# Altium footprint library Connector_USB.PcbLib: 76 footprints (part 4 of 5)
Each footprint in its own frame and in the unit in brackets; x right, y up, seen from the top. Pads: shape width x height; smd on the part's side, far side on the other; paste and mask are expansions set on the pad; w line width, h text height; cw(c..) or ccw(c..) is an arc to the next point about the centre after c.
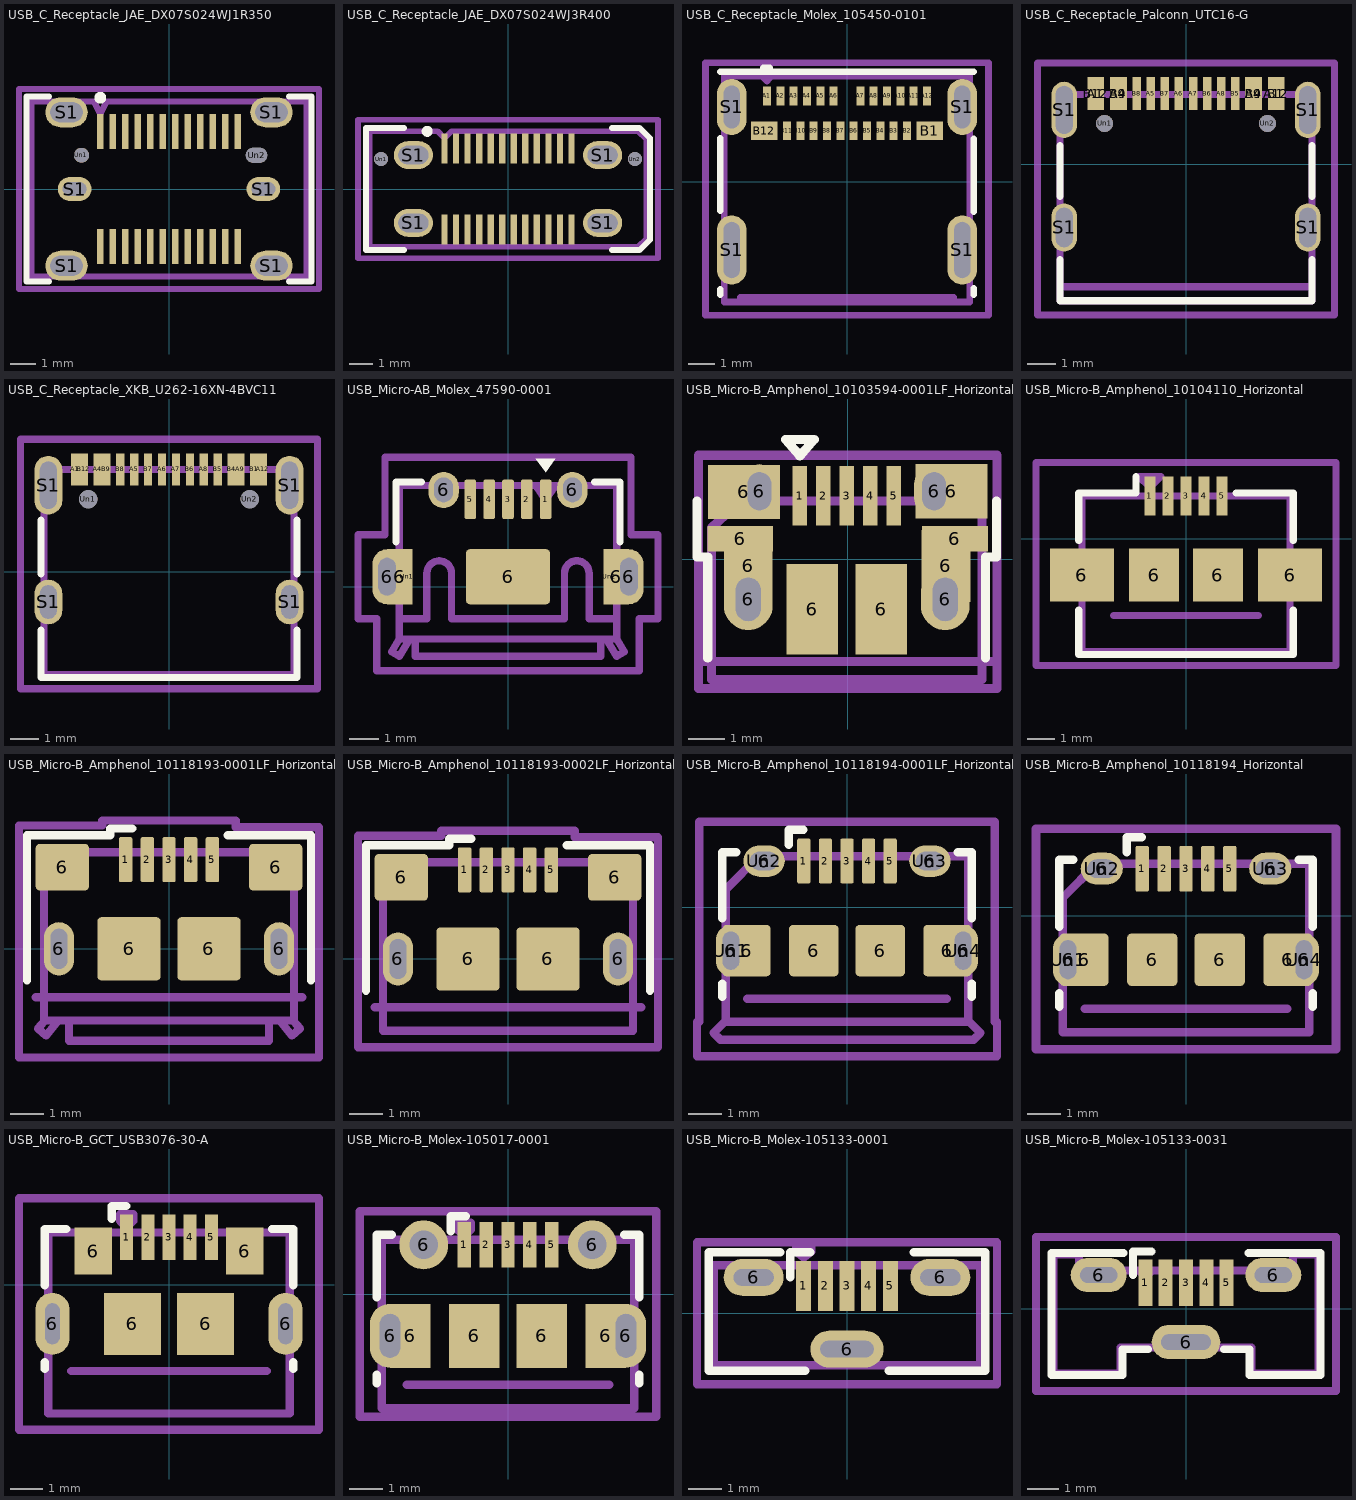
[diagram p3: the footprints below, top view; thin cyan lines are the x and y axes]

## USB_C_Receptacle_JAE_DX07S024WJ1R350 [mm]
pads (32):
  rect 0.27x1.4 smd: A1(-2.75,2.3) A2(-2.25,2.3) A3(-1.75,2.3) A4(-1.25,2.3) A5(-0.75,2.3) A6(-0.25,2.3) A7(0.25,2.3) A8(0.75,2.3) A9(1.25,2.3) A10(1.75,2.3) A11(2.25,2.3) A12(2.75,2.3) B1(2.75,-2.3) B2(2.25,-2.3) B3(1.75,-2.3) B4(1.25,-2.3) B5(0.75,-2.3) B6(0.25,-2.3) B7(-0.25,-2.3) B8(-0.75,-2.3) B9(-1.25,-2.3) B10(-1.75,-2.3) B11(-2.25,-2.3) B12(-2.75,-2.3)
  rrect100% 1.7x1.2 hole 1.3 slot 0.8 at 90 deg: S1(-4.1,-3.07) S1(-4.1,3.07) S1(4.1,-3.07) S1(4.1,3.07)
  rrect100% 1.35x0.95 hole 0.95 slot 0.55 at 90 deg: S1(-3.775,0) S1(3.775,0)
  round 0.6 hole 0.6: Un1(-3.5,1.35)
  rrect100% 0.85x0.6 hole 0.6 slot 0.85 at 0 deg: Un2(3.5,1.35)
F.SilkS:
  circle w0.254: c-2.75,3.65 r0.112
  lines w0.254: -4.8,-3.7 -5.7,-3.7 -5.7,3.7 -4.8,3.7 ; 4.8,-3.7 5.7,-3.7 5.7,3.7 4.8,3.7
Top Assembly:
  lines w0.254: -5.5,-3.5 5.5,-3.5 5.5,3.5 -2.5,3.5 -2.75,3 -3,3.5 -5.5,3.5 -5.5,-3.5
  text "'.Designator'" at -3.997,-0.79 h1
Top Courtyard:
  lines w0.254: -6,-4 6,-4 6,4 -6,4 -6,-4
Top Designator:
  text ".Designator" at -7.618,-0.508 h1.52

## USB_C_Receptacle_JAE_DX07S024WJ3R400 [mm]
pads (30):
  rect 0.27x1.3 smd: A1(-2.75,1.75) A2(-2.25,1.75) A3(-1.75,1.75) A4(-1.25,1.75) A5(-0.75,1.75) A6(-0.25,1.75) A7(0.25,1.75) A8(0.75,1.75) A9(1.25,1.75) A10(1.75,1.75) A11(2.25,1.75) A12(2.75,1.75) B1(2.75,-1.75) B2(2.25,-1.75) B3(1.75,-1.75) B4(1.25,-1.75) B5(0.75,-1.75) B6(0.25,-1.75) B7(-0.25,-1.75) B8(-0.75,-1.75) B9(-1.25,-1.75) B10(-1.75,-1.75) B11(-2.25,-1.75) B12(-2.75,-1.75)
  rrect100% 1.7x1.2 hole 1.3 slot 0.8 at 90 deg: S1(-4.1,-1.47) S1(-4.1,1.47) S1(4.1,-1.47) S1(4.1,1.47)
  round 0.6 hole 0.6: Un1(-5.5,1.3) Un2(5.5,1.3)
F.SilkS:
  circle w0.254: c-3.5,2.5 r0.112
  lines w0.254: -4.5,-2.65 -6.15,-2.65 -6.15,2.65 -4.5,2.65 ; 4.5,-2.65 5.7,-2.65 6.15,-2.2 6.15,2.2 5.7,2.65 4.5,2.65
Top Assembly:
  lines w0.254: -6,-2.5 5.65,-2.5 6,-2.15 6,2.15 5.65,2.5 -2.45,2.5 -2.75,2.2 -3.05,2.5 -6,2.5 -6,-2.5
  text "'.Designator'" at -3.997,-0.79 h1
Top Courtyard:
  lines w0.254: -6.5,-3 6.5,-3 6.5,3 -6.5,3 -6.5,-3
Top Designator:
  text ".Designator" at -7.618,-0.508 h1.52

## USB_C_Receptacle_Molex_105450-0101 [mm]
pads (28):
  rect 0.3x0.7 smd: A1(-3,3.215) A2(-2.5,3.215) A3(-2,3.215) A4(-1.5,3.215) A5(-1,3.215) A6(-0.5,3.215) A7(0.5,3.215) A8(1,3.215) A9(1.5,3.215) A10(2,3.215) A11(2.5,3.215) A12(3,3.215) B2(2.25,1.915) B3(1.75,1.915) B4(1.25,1.915) B5(0.75,1.915) B6(0.25,1.915) B7(-0.25,1.915) B8(-0.75,1.915) B9(-1.25,1.915) B10(-1.75,1.915) B11(-2.25,1.915)
  rect 1x0.7 smd: B1(3.1,1.915) B12(-3.1,1.915)
  rrect100% 1.1x2.6 hole 2.1 slot 0.6 at 0 deg: S1(-4.32,-2.555) S1(4.32,-2.555)
  rrect100% 1.1x2.1 hole 1.6 slot 0.6 at 0 deg: S1(-4.32,2.805) S1(4.32,2.805)
F.SilkS:
  lines w0.254: -4.75,-4.235 -4.75,-4.025 ; -4.75,-1.075 -4.75,1.625 ; -4.75,4.125 4.75,4.125 ; -3.125,4.275 -2.9,4.275 ; 4.75,-4.225 4.75,-4 ; 4.75,-1.125 4.75,1.6
Top Assembly:
  lines w0.254: -3.175,3.95 -3,3.775 -2.85,3.95 ; -4.6,-4.505 4.6,-4.505 4.6,3.965 -4.6,3.965 -4.6,-4.505
  text "'.Designator'" at -4.047,-2.35 h1
Top Courtyard:
  lines w0.254: -5.3,-5 5.3,-5 5.3,4.46 -5.3,4.46 -5.3,-5
Top Designator:
  text ".Designator" at -7.618,-0.778 h1.52
Dwgs.User:
  lines w0.254: -4,-4.325 4,-4.325
  text "PCB Edge" at -1.773,-4.333 h0.5

## USB_C_Receptacle_Palconn_UTC16-G [mm]
pads (22):
  rect 0.6x1.16 smd: A1(-3.2,2.51) A4(-2.4,2.51) A9(2.4,2.51) A12(3.2,2.51) B1(3.2,2.51) B4(2.4,2.51) B9(-2.4,2.51) B12(-3.2,2.51)
  rect 0.3x1.16 smd: A5(-1.25,2.51) A6(-0.25,2.51) A7(0.25,2.51) A8(1.25,2.51) B5(1.75,2.51) B6(0.75,2.51) B7(-0.75,2.51) B8(-1.75,2.51)
  rrect100% 0.9x1.7 hole 0.6 slot 1.4 at 90 deg: S1(-4.32,-2.24) S1(4.32,-2.24)
  rrect100% 0.9x2 hole 0.6 slot 1.7 at 90 deg: S1(-4.32,1.93) S1(4.32,1.93)
  round 0.6 hole 0.6: Un1(-2.89,1.45) Un2(2.89,1.45)
F.SilkS:
  lines w0.254: -4.47,-3.38 -4.47,-4.84 4.47,-4.84 4.47,-3.38 ; -4.47,-1.13 -4.47,0.67 ; 4.47,-1.13 4.47,0.67
Top Assembly:
  lines w0.254: -4.47,-4.84 4.47,-4.84 4.47,2.48 -4.47,2.48 -4.47,-4.84
  text "'.Designator'" at -4.047,-2.02 h1
Top Courtyard:
  lines w0.254: -5.27,-5.34 5.27,-5.34 5.27,3.59 -5.27,3.59 -5.27,-5.34
Top Designator:
  text ".Designator" at -7.618,-1.383 h1.52
Dwgs.User:
  lines w0.254: -4.47,-4.34 4.47,-4.34
  text "PCB Edge" at -3.447,-4.247 h1

## USB_C_Receptacle_XKB_U262-16XN-4BVC11 [mm]
pads (22):
  rect 0.3x1.15 smd: A1(-3.35,3.67) A4(-2.55,3.67) A5(-1.25,3.67) A6(-0.25,3.67) A7(0.25,3.67) A8(1.25,3.67) A9(2.55,3.67) A12(3.35,3.67) B1(3.05,3.67) B4(2.25,3.67) B5(1.75,3.67) B6(0.75,3.67) B7(-0.75,3.67) B8(-1.75,3.67) B9(-2.25,3.67) B12(-3.05,3.67)
  rrect100% 1x1.6 hole 1.2 slot 0.6 at 0 deg: S1(-4.32,-1.075) S1(4.32,-1.075)
  rrect100% 1x2.1 hole 1.7 slot 0.6 at 0 deg: S1(-4.32,3.105) S1(4.32,3.105)
  round 0.65 hole 0.65: Un1(-2.89,2.605) Un2(2.89,2.605)
F.SilkS:
  lines w0.254: -4.58,-2.08 -4.58,-3.785 4.58,-3.785 4.58,-2.08 ; -4.58,-0.07 -4.58,1.85 ; 4.58,-0.07 4.58,1.85
Top Assembly:
  lines w0.254: -4.47,-3.675 4.47,-3.675 4.47,3.675 -4.47,3.675 -4.47,-3.675
  text "'.Designator'" at -4.047,-0.84 h1
Top Courtyard:
  lines w0.254: -5.32,-4.18 5.32,-4.18 5.32,4.75 -5.32,4.75 -5.32,-4.18
Top Designator:
  text ".Designator" at -7.618,-0.223 h1.52

## USB_Micro-AB_Molex_47590-0001 [mm]
pads (14):
  rrect25% 0.4x1.35 smd: 1(1.3,3.025) 2(0.65,3.025) 3(0,3.025) 4(-0.65,3.025) 5(-1.3,3.025)
  rrect100% 1x1.9 hole 1.3 slot 0.6 at 0 deg: 6(-4.175,0.35) 6(4.175,0.35)
  rect 0.875x1.9 smd: 6(-3.738,0.35) 6(3.738,0.35)
  rrect100% 1.05x1.25 hole 0.85 slot 0.65 at 0 deg: 6(-2.225,3.35) 6(2.225,3.35)
  rrect13% 2.9x1.9 smd: 6(0,0.35)
  rect 0.3x0.85 on Top Paste: Un1(-3.5,0.35) Un2(3.5,0.35)
F.SilkS:
  region: 1.3,3.96 0.96,4.43 1.64,4.43
  lines w0.254: -3.87,1.55 -3.87,3.62 -3,3.62 ; 3,3.62 3.87,3.62 3.87,1.55
Top Assembly:
  lines w0.254: -3.388,-1.8 -3.75,-2.4 -4.021,-2.246 -3.75,-1.8 ; -3.2,-1.8 -3.2,-2.4 3.2,-2.4 3.2,-1.8 ; 0.95,3.5 1.3,3 1.65,3.5 ; 3.388,-1.8 3.75,-2.4 4.021,-2.246 3.75,-1.8 ; -3.75,-1.8 3.75,-1.8 ; -3.75,-1.8 -3.75,3.5 3.75,3.5 3.75,-1.8
  text "'.Designator'" at -4.047,-0.29 h1
Top Courtyard:
  lines w0.254: -5.18,-1.1 -4.53,-1.1 -4.53,-2.9 4.53,-2.9 4.53,-1.1 5.18,-1.1 5.18,1.8 4.25,1.8 4.25,4.48 -4.25,4.48 -4.25,1.8 -5.18,1.8 -5.18,-1.1
Top Designator:
  text ".Designator" at -7.618,0.282 h1.52
Board Shape:
  lines w0.254: -3.75,-1.1 -2.8,-1.1 -2.8,0.475 cw(c-2.375,0.475) -1.95,0.475 -1.95,-1.1 1.95,-1.1 1.95,0.475 cw(c2.375,0.475) 2.8,0.475 2.8,-1.1 3.75,-1.1
Dwgs.User:
  text "PCB Edge" at -1.359,-1.407 h0.4

## USB_Micro-B_Amphenol_10103594-0001LF_Horizontal [mm]
pads (17):
  rect 0.4x1.65 smd: 1(-1.325,1.765) 2(-0.675,1.765) 3(-0.025,1.765) 4(0.625,1.765) 5(1.275,1.765)
  rect 1.825x0.7 smd: 6(-2.975,0.565) 6(2.975,0.565)
  rect 2x1.5 smd: 6(-2.875,1.865) 6(2.875,1.885)
  rrect100% 1.35x1.7 hole 0.7 slot 1.2 at 90 deg: 6(-2.755,-1.115) 6(2.705,-1.115)
  rect 1.35x2 smd: 6(-2.755,-0.185) 6(2.725,-0.185)
  rrect100% 1.1x1.5 hole 0.65 slot 1.05 at 90 deg: 6(-2.445,1.885) 6(2.395,1.885)
  rect 1.43x2.5 smd: 6(-0.985,-1.385) 6(0.935,-1.385)
F.SilkS:
  lines w0.254: -4.175,1.615 -4.175,0.065 -3.875,0.065 -3.875,-2.735 ; 3.825,-2.735 3.825,0.065 4.125,0.065 4.125,1.615 ; -1.725,3.315 -1.325,2.865 -0.925,3.315 -1.725,3.315
Top Assembly:
  lines w0.254: -3.775,-3.335 3.725,-3.335 3.725,1.615 -2.975,1.615 -3.775,0.865 -3.775,-3.335
  text "'.Designator'" at -4.072,-0.825 h1
Top Courtyard:
  lines w0.254: -4.13,-3.58 4.14,-3.58 4.14,2.88 -4.13,2.88 -4.13,-3.58
Top Designator:
  text ".Designator" at -7.635,-0.64 h1.52
Dwgs.User:
  lines w0.254: -4.025,-2.835 3.975,-2.835
  text "PCB edge" at -1.748,-2.643 h0.5

## USB_Micro-B_Amphenol_10104110_Horizontal [mm]
pads (9):
  rect 0.4x1.4 smd: 1(-1.3,1.55) 2(-0.65,1.55) 3(0,1.55) 4(0.65,1.55) 5(1.3,1.55)
  rect 2.3x1.9 smd: 6(-3.75,-1.3) 6(3.75,-1.3)
  rect 1.8x1.9 smd: 6(-1.15,-1.3) 6(1.15,-1.3)
F.SilkS:
  lines w0.254: -3.86,-2.55 -3.86,-4.16 3.86,-4.16 3.86,-2.55 ; -3.86,-0.05 -3.86,1.66 -1.8,1.66 -1.8,2.25 ; 1.8,1.66 3.86,1.66 3.86,-0.05
Top Assembly:
  lines w0.254: -2.6,-2.75 2.6,-2.75 ; -3.75,-4.05 3.75,-4.05 3.75,1.55 -3.75,1.55 -3.75,-4.05 ; -1.7,2.25 -0.9,2.25 -1.3,1.85 -1.7,2.25
  text "'.Designator'" at -4.047,-0.64 h1
Top Courtyard:
  lines w0.254: -5.4,-4.55 5.4,-4.55 5.4,2.75 -5.4,2.75 -5.4,-4.55
Top Designator:
  text ".Designator" at -7.618,-1.408 h1.52
Dwgs.User:
  text "PCB edge" at -1.728,-3.163 h0.5

## USB_Micro-B_Amphenol_10118193-0001LF_Horizontal [mm]
pads (11):
  rrect25% 0.4x1.35 smd: 1(-1.3,2.675) 2(-0.65,2.675) 3(0,2.675) 4(0.65,2.675) 5(1.3,2.675)
  rrect100% 0.9x1.6 hole 0.5 slot 1.2 at 90 deg: 6(-3.3,0) 6(3.3,0)
  rrect18% 1.6x1.4 smd: 6(-3.2,2.45) 6(3.2,2.45)
  rrect13% 1.9x1.9 smd: 6(-1.2,0) 6(1.2,0)
F.SilkS:
  lines w0.254: -4.26,-0.95 -4.26,3.41 -1.76,3.41 -1.76,3.61 -1.1,3.61 ; 1.76,3.41 4.26,3.41 4.26,-0.95
Top Assembly:
  lines w0.254: -3.73,-2.15 -3.93,-2.4 -3.68,-2.6 -3.32,-2.15 ; -3,-2.15 -3,-2.76 3,-2.76 3,-2.15 ; 3.32,-2.15 3.68,-2.6 3.93,-2.4 3.73,-2.15 ; 3.73,2.9 -2.75,2.9 -3.75,1.9 -3.75,-2.15 3.75,-2.15 3.75,2.9
  text "'.Designator'" at -4.047,-0.14 h1
Top Courtyard:
  lines w0.254: -4.5,-3.26 4.5,-3.26 4.5,3.65 2,3.65 2,3.85 -2,3.85 -2,3.7 -4.5,3.7 -4.5,-3.26
Top Designator:
  text ".Designator" at -7.618,-0.213 h1.52
Dwgs.User:
  lines w0.254: -4,-1.45 4,-1.45
  text "PCB edge" at -1.723,-1.208 h0.5

## USB_Micro-B_Amphenol_10118193-0002LF_Horizontal [mm]
pads (11):
  rrect25% 0.4x1.35 smd: 1(-1.3,2.675) 2(-0.65,2.675) 3(0,2.675) 4(0.65,2.675) 5(1.3,2.675)
  rrect100% 0.9x1.6 hole 0.5 slot 1.2 at 90 deg: 6(-3.3,0) 6(3.3,0)
  rrect18% 1.6x1.4 smd: 6(-3.2,2.45) 6(3.2,2.45)
  rrect13% 1.9x1.9 smd: 6(-1.2,0) 6(1.2,0)
F.SilkS:
  lines w0.254: -4.26,-0.95 -4.26,3.41 -1.76,3.41 -1.76,3.61 -1.1,3.61 ; 1.76,3.41 4.26,3.41 4.26,-0.95
Top Assembly:
  lines w0.254: 3.73,2.9 -2.75,2.9 -3.75,1.9 -3.75,-2.15 3.75,-2.15 3.75,2.9
  text "'.Designator'" at -4.047,-0.14 h1
Top Courtyard:
  lines w0.254: -4.5,-2.65 4.5,-2.65 4.5,3.65 2,3.65 2,3.85 -2,3.85 -2,3.7 -4.5,3.7 -4.5,-2.65
Top Designator:
  text ".Designator" at -7.618,0.092 h1.52
Dwgs.User:
  lines w0.254: -4,-1.45 4,-1.45
  text "PCB edge" at -1.723,-1.208 h0.5

## USB_Micro-B_Amphenol_10118194-0001LF_Horizontal [mm]
pads (17):
  rrect25% 0.4x1.35 smd: 1(-1.3,1.4) 2(-0.65,1.4) 3(0,1.4) 4(0.65,1.4) 5(1.3,1.4)
  rrect100% 0.89x1.55 hole 1.15 slot 0.5 at 0 deg: 6(-3.5,-1.3) 6(3.5,-1.3)
  rrect17% 1.45x1.55 smd: 6(-3.025,-1.3) 6(3.025,-1.3)
  rrect100% 1.25x0.95 hole 0.55 slot 0.85 at 0 deg: 6(-2.5,1.4) 6(2.5,1.4)
  rrect17% 1.5x1.55 smd: 6(-1,-1.3) 6(1,-1.3)
  rrect100% 0.89x1.55 on Top Paste: Un1(-3.5,-1.3) Un4(3.5,-1.3)
  rrect100% 1.25x0.95 on Top Paste: Un2(-2.5,1.4) Un3(2.5,1.4)
F.SilkS:
  lines w0.254: -3.76,-2.69 -3.76,-2.29 ; -3.76,-0.32 -3.76,1.66 -3.34,1.66 ; -1.76,1.89 -1.76,2.34 -1.31,2.34 ; 3.34,1.66 3.76,1.66 3.76,-0.32 ; 3.76,-2.69 3.76,-2.29
Top Assembly:
  lines w0.254: -3.65,-3.41 -4.02,-3.78 -3.82,-3.98 3.82,-3.98 4.02,-3.78 3.65,-3.41 ; -3.65,-3.45 3.65,-3.45 3.65,1.55 -2.65,1.55 -3.65,0.55 -3.65,-3.45
  text "'.Designator'" at -4.047,-0.79 h1
Top Courtyard:
  lines w0.254: -4.52,-4.48 4.52,-4.48 4.52,-3.45 4.45,-3.45 4.45,2.58 -4.45,2.58 -4.45,-3.45 -4.52,-3.45 -4.52,-4.48
Top Designator:
  text ".Designator" at -7.618,-1.458 h1.52
Dwgs.User:
  lines w0.254: -3,-2.75 3,-2.75
  text "PCB Edge" at -1.728,-3.163 h0.5

## USB_Micro-B_Amphenol_10118194_Horizontal [mm]
pads (17):
  rrect25% 0.4x1.35 smd: 1(-1.3,1.4) 2(-0.65,1.4) 3(0,1.4) 4(0.65,1.4) 5(1.3,1.4)
  rrect100% 0.89x1.55 hole 1.15 slot 0.5 at 0 deg: 6(-3.5,-1.3) 6(3.5,-1.3)
  rrect17% 1.45x1.55 smd: 6(-3.025,-1.3) 6(3.025,-1.3)
  rrect100% 1.25x0.95 hole 0.55 slot 0.85 at 0 deg: 6(-2.5,1.4) 6(2.5,1.4)
  rrect17% 1.5x1.55 smd: 6(-1,-1.3) 6(1,-1.3)
  rrect100% 0.89x1.55 on Top Paste: Un1(-3.5,-1.3) Un4(3.5,-1.3)
  rrect100% 1.25x0.95 on Top Paste: Un2(-2.5,1.4) Un3(2.5,1.4)
F.SilkS:
  lines w0.254: -3.76,-2.69 -3.76,-2.29 ; -3.76,-0.32 -3.76,1.66 -3.34,1.66 ; -1.76,1.89 -1.76,2.34 -1.31,2.34 ; 3.34,1.66 3.76,1.66 3.76,-0.32 ; 3.76,-2.69 3.76,-2.29
Top Assembly:
  lines w0.254: -3.65,-3.45 3.65,-3.45 3.65,1.55 -2.65,1.55 -3.65,0.55 -3.65,-3.45
  text "'.Designator'" at -4.047,-0.79 h1
Top Courtyard:
  lines w0.254: -4.45,-3.95 4.45,-3.95 4.45,2.58 -4.45,2.58 -4.45,-3.95
Top Designator:
  text ".Designator" at -7.618,-1.193 h1.52
Dwgs.User:
  lines w0.254: -3,-2.75 3,-2.75
  text "PCB Edge" at -1.728,-3.163 h0.5

## USB_Micro-B_GCT_USB3076-30-A [mm]
pads (11):
  rect 0.4x1.4 smd: 1(-1.3,1.45) 2(-0.65,1.45) 3(0,1.45) 4(0.65,1.45) 5(1.3,1.45)
  rrect100% 1.05x1.9 hole 1.25 slot 0.45 at 0 deg: 6(-3.575,-1.2) 6(3.575,-1.2)
  rect 1.15x1.45 smd: 6(-2.32,1.03) 6(2.32,1.03)
  rect 1.75x1.9 smd: 6(-1.125,-1.2) 6(1.125,-1.2)
F.SilkS:
  lines w0.254: -3.81,-2.59 -3.81,-2.38 ; -3.81,-0.02 -3.81,1.71 -3.15,1.71 ; -1.76,2.02 -1.76,2.41 -1.31,2.41 ; 3.16,1.71 3.81,1.71 3.81,-0.02 ; 3.81,-2.59 3.81,-2.38
Top Assembly:
  lines w0.254: -3,-2.65 3,-2.65 ; -3.7,-3.95 3.7,-3.95 3.7,1.6 -3.7,1.6 -3.7,-3.95 ; -1.5,1.95 -1.3,1.75 -1.1,1.95 -1.1,2.16 -1.5,2.16 -1.5,1.95
  text "'.Designator'" at -4.047,-1.69 h1
Top Courtyard:
  lines w0.254: -4.6,-4.45 4.6,-4.45 4.6,2.65 -4.6,2.65 -4.6,-4.45
Top Designator:
  text ".Designator" at -7.618,-1.408 h1.52
Dwgs.User:
  text "PCB Edge" at -1.728,-3.063 h0.5

## USB_Micro-B_Molex-105017-0001 [mm]
pads (13):
  rect 0.4x1.35 smd: 1(-1.3,1.462) 2(-0.65,1.462) 3(0,1.462) 4(0.65,1.462) 5(1.3,1.462)
  rrect100% 1.2x1.9 hole 1.3 slot 0.6 at 0 deg: 6(-3.5,-1.238) 6(3.5,-1.238)
  rect 1.2x1.9 smd: 6(-2.9,-1.238) 6(2.9,-1.238)
  round 1.45 hole 0.85: 6(-2.5,1.462) 6(2.5,1.462)
  rect 1.5x1.9 smd: 6(-1,-1.238) 6(1,-1.238)
F.SilkS:
  lines w0.254: -3.9,-2.638 -3.9,-2.388 ; -3.9,-0.088 -3.9,1.763 -3.45,1.763 ; -1.7,1.863 -1.7,2.312 -1.25,2.312 ; 3.45,1.763 3.9,1.763 3.9,-0.088 ; 3.9,-2.638 3.9,-2.388
Top Assembly:
  lines w0.254: -3.75,-3.389 3.75,-3.389 ; -3.75,-3.387 -3.75,1.613 3.75,1.613 3.75,-3.387 ; -3,-2.689 3,-2.689 ; -1.5,1.913 -1.3,1.713 -1.1,1.913 -1.1,2.123 -1.5,2.123 -1.5,1.913
  text "'.Designator'" at -4.047,-1.728 h1
Top Courtyard:
  lines w0.254: -4.4,-3.64 4.4,-3.64 4.4,2.46 -4.4,2.46 -4.4,-3.64
Top Designator:
  text ".Designator" at -7.618,-1.098 h1.52
Dwgs.User:
  text "PCB Edge" at -1.728,-3.101 h0.5

## USB_Micro-B_Molex-105133-0001 [mm]
pads (8):
  rect 0.45x1.5 smd: 1(-1.3,0.825) 2(-0.65,0.825) 3(0,0.825) 4(0.65,0.825) 5(1.3,0.825)
  rrect100% 1.8x1.1 hole 0.5 slot 1.2 at 0 deg: 6(-2.8,1.075) 6(2.8,1.075)
  rrect100% 2.2x1.1 hole 0.5 slot 1.6 at 0 deg: 6(0,-1.075)
F.SilkS:
  lines w0.254: -2,1.825 -4.15,1.825 -4.15,-1.725 -1.25,-1.725 ; -1.7,1.075 -1.7,1.825 -1.1,1.825 ; 1.25,-1.725 4.15,-1.725 4.15,1.825 2,1.825
Top Assembly:
  lines w0.254: -4,-1.565 4,-1.565 4,1.435 -4,1.435 -4,-1.565 ; -1.525,1.85 -1.3,1.675 -1.075,1.85 -1.075,2.075 -1.525,2.075 -1.525,1.85
  text "'.Designator'" at -4.047,-0.465 h1
Top Courtyard:
  lines w0.254: -4.5,-2.13 4.5,-2.13 4.5,2.13 -4.5,2.13 -4.5,-2.13
Top Designator:
  text ".Designator" at -7.618,-0.508 h1.52

## USB_Micro-B_Molex-105133-0031 [mm]
pads (8):
  rect 0.45x1.5 smd: 1(-1.3,0.825) 2(-0.65,0.825) 3(0,0.825) 4(0.65,0.825) 5(1.3,0.825)
  rrect100% 1.8x1.1 hole 0.5 slot 1.2 at 0 deg: 6(-2.8,1.075) 6(2.8,1.075)
  rrect100% 2.2x1.1 hole 0.5 slot 1.6 at 0 deg: 6(0,-1.075)
F.SilkS:
  lines w0.254: -2,1.785 -4.31,1.785 -4.31,-2.135 -2.04,-2.135 -2.04,-1.305 -1.21,-1.305 ; -1.7,1.075 -1.7,1.825 -1.1,1.825 ; 1.21,-1.305 2.04,-1.305 2.04,-2.135 4.31,-2.135 4.31,1.785 2,1.785
Top Assembly:
  lines w0.254: -4.25,-2.075 -2.1,-2.075 -2.1,-1.245 2.1,-1.245 2.1,-2.075 4.25,-2.075 4.25,1.725 3.43,1.725 3.43,1.225 -1.075,1.225 -1.3,1 -1.525,1.225 -3.43,1.225 -3.43,1.725 -4.25,1.725 -4.25,-2.075
  text "'.Designator'" at -4.047,-0.465 h1
Top Courtyard:
  lines w0.254: -4.81,-2.64 4.81,-2.64 4.81,2.29 -4.81,2.29 -4.81,-2.64
Top Designator:
  text ".Designator" at -7.618,-0.683 h1.52